# EAGLE library part 555165-1 (library bob)
6-6 Modular Jack
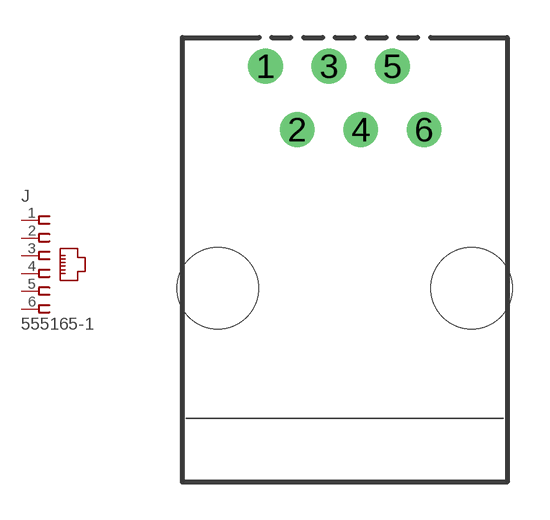
[diagram p1: symbol with the pads of 555165-1; footprint 555165-1]

Designator prefix J

## 555165-1  [555165-1]
1  1  pas
2  2  pas
3  3  pas
4  4  pas
5  5  pas
6  6  pas

## Footprint 555165-1 (pad centres in mm)
Modular Jack without Panel Stops
drill 0.889: 1 -3.175,7.747; 2 -1.905,5.207; 3 -0.635,7.747; 4 0.635,5.207; 5 1.905,7.747; 6 3.175,5.207
hole 3.251 at -5.08,-1.143
hole 3.251 at 5.08,-1.143